# EAGLE library part HX711_BREAKOUT (library CDC Library v130)
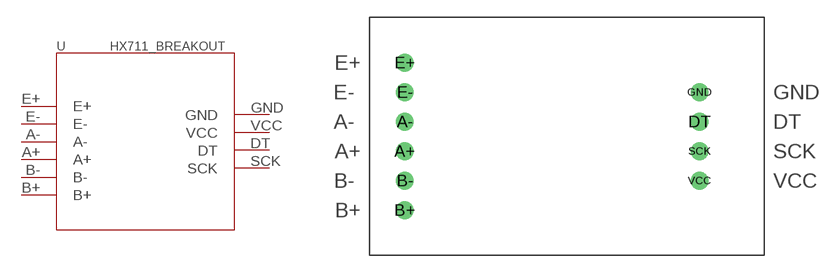
[diagram p15: symbol with the pads of HX711_BREAKOUT; footprint HX711_BREAKOUT]

Designator prefix -

## HX711_BREAKOUT  [HX711_BREAKOUT]
A+  A+
A-  A-
B+  B+
B-  B-
DT  DT
E+  E+
E-  E-
GND  GND
SCK  SCK
VCC  VCC

## Footprint HX711_BREAKOUT (pad centres in mm)
drill 1.016: A+ -13.97,-1.27; A- -13.97,1.27; B+ -13.97,-6.35; B- -13.97,-3.81; DT 11.43,1.27; E+ -13.97,6.35; E- -13.97,3.81; GND 11.43,3.81; SCK 11.43,-1.27; VCC 11.43,-3.81